# EAGLE library part TPS61221 (library IC & Transistor)
3V3 Boost Converter Created by: Wai Weng
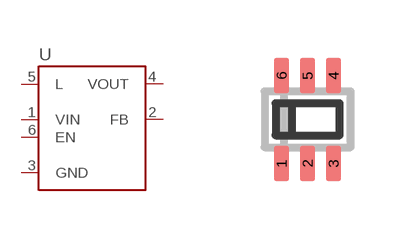
[diagram p36: symbol with the pads of SC-70-6; footprint SC-70-6]

Designator prefix U

## TPS61221 (DESC: Boost Converter; MF: Texas Instrument; MPN: TPS61221DCKT; VALUE: 3V3 200mA)  [SC-70-6]
1  VIN
2  FB
3  GND
4  VOUT
5  L
6  EN

## Footprint SC-70-6 (pad centres in mm)
SC-70-6 SC-88 SOT363
smd 0.38 x 0.9: 1 -0.65,-1.1; 2 0,-1.1; 3 0.65,-1.1; 4 0.65,1.1; 5 0,1.1; 6 -0.65,1.1